# EAGLE library part 211PC249S0005 (library automotive-Con)
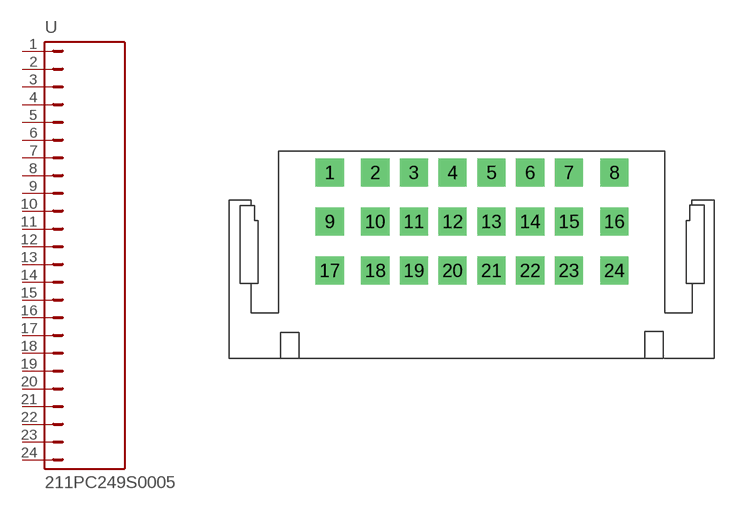
[diagram p0: symbol with the pads of 211PC249S0005; footprint 211PC249S0005]

Designator prefix -

## 211PC249S0005  [211PC249S0005]
1  1  pas
2  2  pas
3  3  pas
4  4  pas
5  5  pas
6  6  pas
7  7  pas
8  8  pas
9  9  pas
10  10  pas
11  11  pas
12  12  pas
13  13  pas
14  14  pas
15  15  pas
16  16  pas
17  17  pas
18  18  pas
19  19  pas
20  20  pas
21  21  pas
22  22  pas
23  23  pas
24  24  pas

## Footprint 211PC249S0005 (pad centres in mm)
drill 1.651 square: 1 -12.065,11.811; 2 -8.055,11.811; 3 -4.652,11.811; 4 -1.236,11.811; 5 2.181,11.811; 6 5.597,11.811; 7 9.013,11.811; 8 13.018,11.811; 9 -12.065,7.493; 10 -8.055,7.493; 11 -4.652,7.493; 12 -1.236,7.493; 13 2.181,7.493; 14 5.597,7.493; 15 9.013,7.493; 16 13.018,7.493; 17 -12.065,3.175; 18 -8.055,3.175; 19 -4.652,3.175; 20 -1.236,3.175; 21 2.181,3.175; 22 5.597,3.175; 23 9.013,3.175; 24 13.018,3.175